# Altium footprint library MP-M3.PcbLib: 1 footprints
Each footprint in its own frame and in the unit in brackets; x right, y up, seen from the top. Pads: shape width x height; smd on the part's side, far side on the other; paste and mask are expansions set on the pad; w line width, h text height; cw(c..) or ccw(c..) is an arc to the next point about the centre after c.
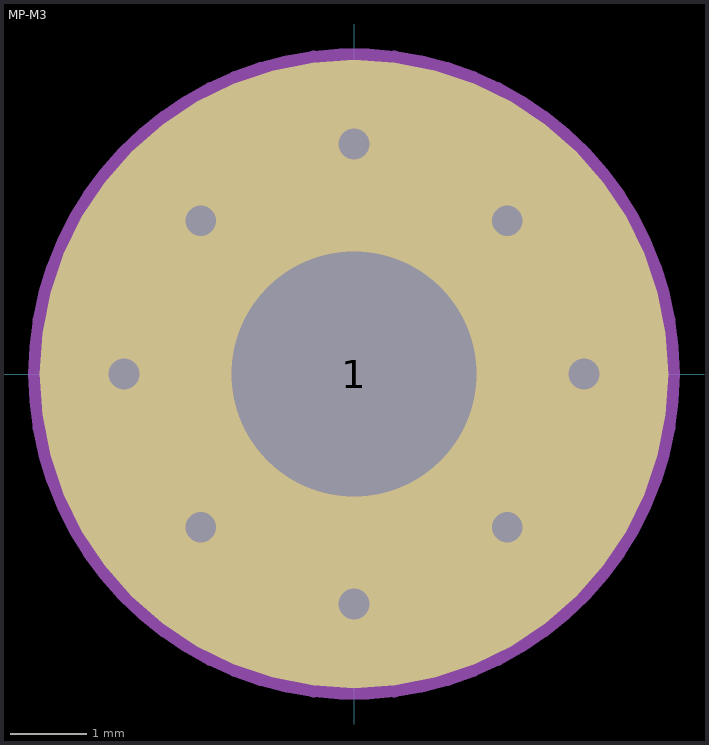
[diagram p0: the footprint, top view; thin cyan lines are the x and y axes]

## MP-M3 [mm]
pads (1):
  round 8.2 hole 3.2: 1(0,0)
via -2,-2 diameter 0.8 hole 0.4
via 2,-2 diameter 0.8 hole 0.4
via 2,2 diameter 0.8 hole 0.4
via -2,2 diameter 0.8 hole 0.4
via 0,-3 diameter 0.8 hole 0.4
via -3,0 diameter 0.8 hole 0.4
via 3,0 diameter 0.8 hole 0.4
via 0,3 diameter 0.8 hole 0.4
Mechanical 13:
  circle w0.2: c0,0 r4.15
  circle w0.2: c0,0 r1.6
Mechanical 15:
  lines w0.2: -1,0 0,0 ; 0,-1 0,0 ; 0,1 0,0 ; 1,0 0,0
3D body "M3x6.step": height 2.8, standoff -6, extent -2.75,-2.75 2.75,2.75